# EAGLE library part TX2 (library Panasonic Relay)
TX - 2 Form C - Single side stable Data sheet <https://www.panasonic-electric-works.com/eu/download.htm?id=55617> Parameters Max. switching voltage: 220V DC Max. switching current: Standard contact: 2A; AgPd contact: 1A Operational function: single side stable, 2 coil latching Contact arrangement: 2 CO Applications Communications (xDSL, Transmission) Measurement Security Home appliances and audio visual equipment Automotive equipment Medical equipment Options Also available as 2 coil latching version.
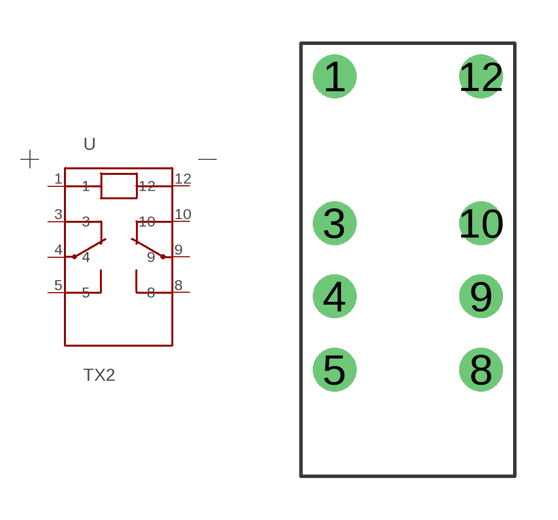
[diagram p33: symbol with the pads of TX/-TH/-D/-S_SSS/1CLT; footprint TX/-TH/-D/-S_SSS/1CLT]

Designator prefix -

## TX2-12V (U_COIL: 12V DC), TX2-24V (U_COIL: 24V DC), TX2-3V (U_COIL: 3V DC), TX2-4.5V (U_COIL: 4.5V DC), TX2-5V (U_COIL: 5V DC), TX2-6V (U_COIL: 6V DC), TX2-9V (U_COIL: 9V DC)  [TX/-TH/-D/-S_SSS/1CLT]
1  1
3  3
4  4
5  5
8  8
9  9
10  10
12  12

## Footprint TX/-TH/-D/-S_SSS/1CLT (pad centres in mm)
drill 1: 1 -2.54,6.35; 3 -2.54,1.27; 4 -2.54,-1.27; 5 -2.54,-3.81; 8 2.54,-3.81; 9 2.54,-1.27; 10 2.54,1.27; 12 2.54,6.35